# Altium schematic symbol library ERJU02F5102X.SchLib: 1 symbol
Pins are listed as number, name and electrical type; pins without a type are passive.

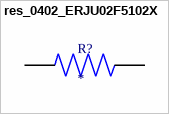
[diagram p0: symbol res_0402_ERJU02F5102X]

## res_0402_ERJU02F5102X
designator R?
MP: ERJU02F5102X; Availability: Unavailable; Price: None; Package: None; Value: *
footprint RES_ERJU02F5102X
pins: 1, 2